# EAGLE library part CLT-112-02-XX-D-BE-A (library samtec)
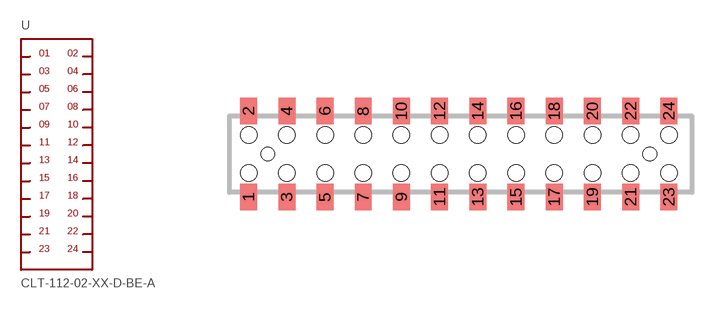
[diagram p3: symbol with the pads of CLT-112-02-XX-D-BE-A; footprint CLT-112-02-XX-D-BE-A]

Designator prefix -

## CLT-112-02-XX-D-BE-A  [CLT-112-02-XX-D-BE-A]
1  1
2  2
3  3
4  4
5  5
6  6
7  7
8  8
9  9
10  10
11  11
12  12
13  13
14  14
15  15
16  16
17  17
18  18
19  19
20  20
21  21
22  22
23  23
24  24

## Footprint CLT-112-02-XX-D-BE-A (pad centres in mm)
PCB Matrix Packages
smd 0.889 x 1.397: 1 -11,-2.25; 2 -11,2.25; 3 -9,-2.25; 4 -9,2.25; 5 -7,-2.25; 6 -7,2.25; 7 -5,-2.25; 8 -5,2.25; 9 -3,-2.25; 10 -3,2.25; 11 -1,-2.25; 12 -1,2.25; 13 1,-2.25; 14 1,2.25; 15 3,-2.25; 16 3,2.25; 17 5,-2.25; 18 5,2.25; 19 7,-2.25; 20 7,2.25; 21 9,-2.25; 22 9,2.25; 23 11,-2.25; 24 11,2.25
hole 0.711 at 10,0
hole 0.711 at -10,0
hole 0.864 at -11,1
hole 0.864 at -11,-1
hole 0.864 at -9,-1
hole 0.864 at -9,1
hole 0.864 at -7,-1
hole 0.864 at -7,1
hole 0.864 at -5,-1
hole 0.864 at -5,1
hole 0.864 at -3,-1
hole 0.864 at -3,1
hole 0.864 at -1,-1
hole 0.864 at -1,1
hole 0.864 at 1,-1
hole 0.864 at 1,1
hole 0.864 at 3,-1
hole 0.864 at 3,1
hole 0.864 at 5,-1
hole 0.864 at 5,1
hole 0.864 at 7,-1
hole 0.864 at 7,1
hole 0.864 at 9,-1
hole 0.864 at 9,1
hole 0.864 at 11,-1
hole 0.864 at 11,1